# Altium footprint library IC-SMD.PCBLIB: 298 footprints (part 12 of 19)
Each footprint in its own frame and in the unit in brackets; x right, y up, seen from the top. Pads: shape width x height; smd on the part's side, far side on the other; paste and mask are expansions set on the pad; w line width, h text height; cw(c..) or ccw(c..) is an arc to the next point about the centre after c.
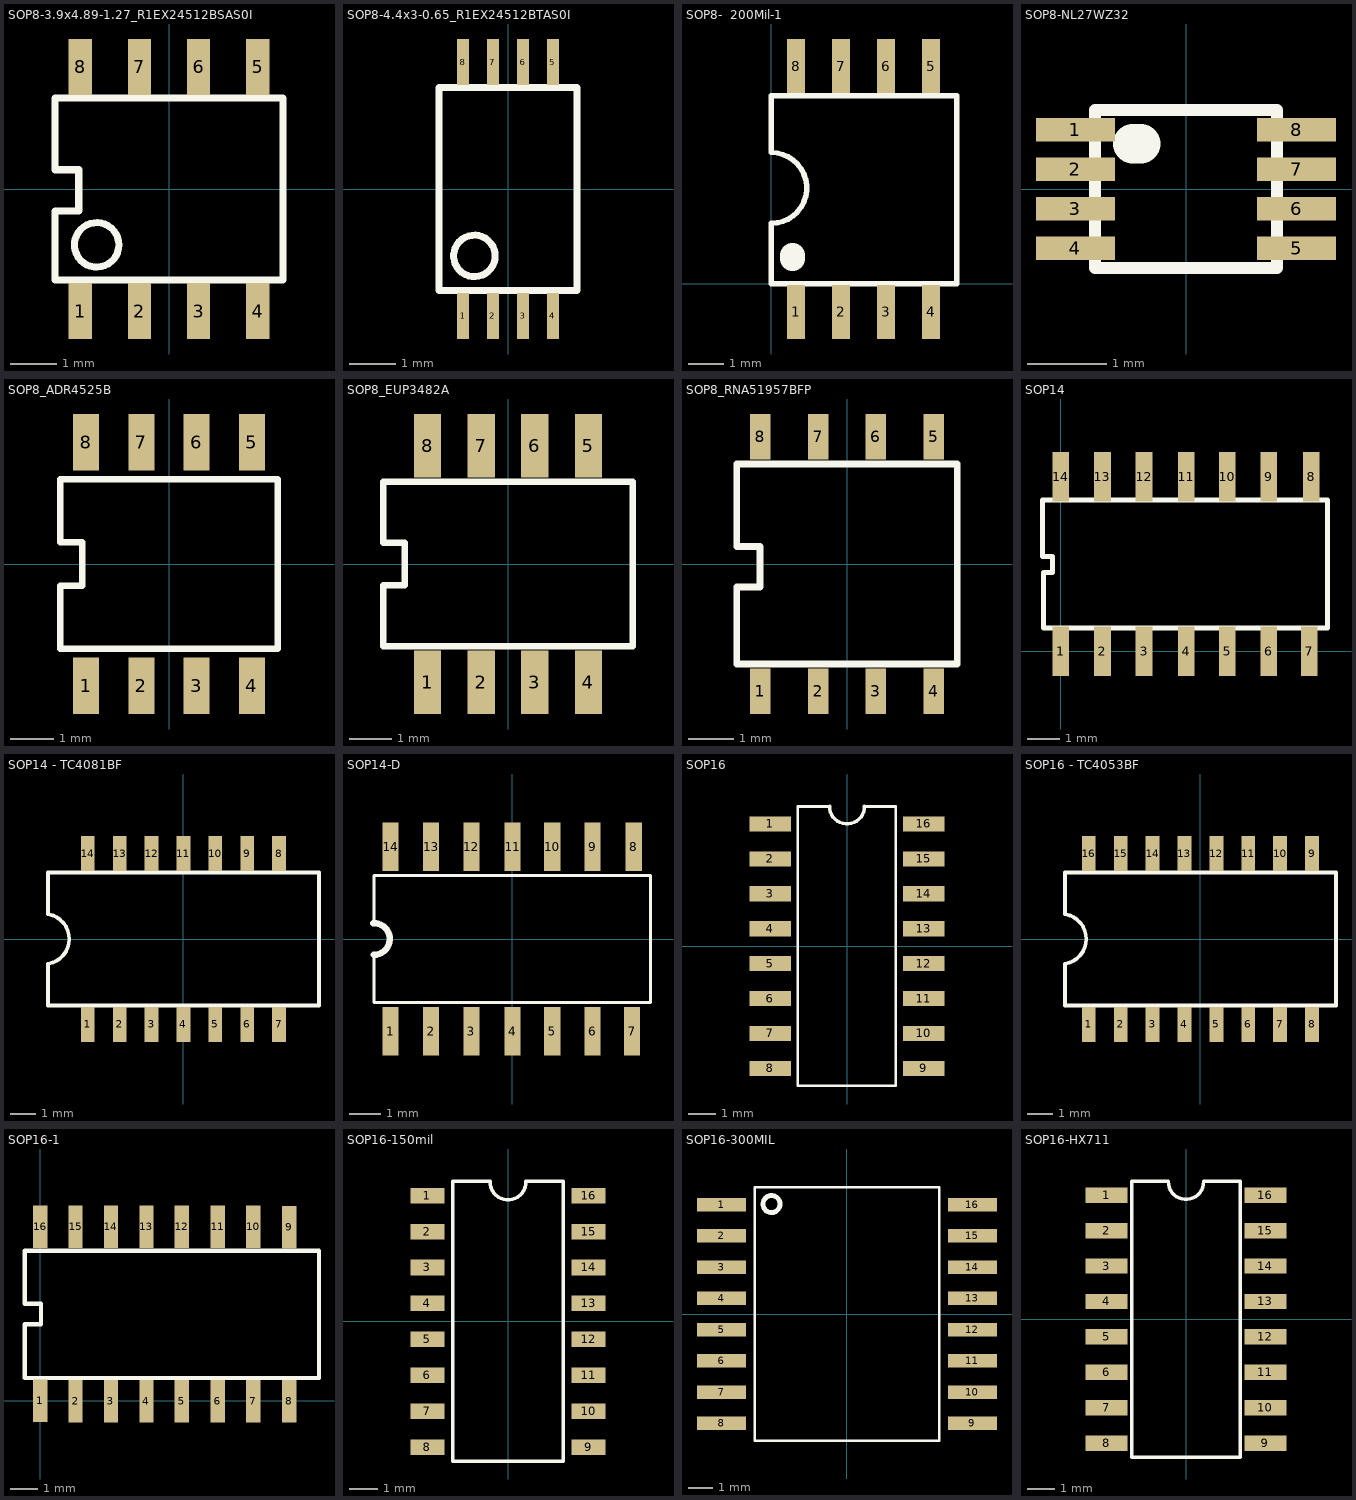
[diagram p11: the footprints below, top view; thin cyan lines are the x and y axes]

## SOP8-3.9x4.89-1.27_R1EX24512BSAS0I [mm] "SOP8-3.9x4.89-1.27_R1EX24512BSAS0I"
pads (8):
  rect 0.5x1.2 smd: 1(-1.905,-2.621) 2(-0.635,-2.621) 3(0.635,-2.621) 4(1.905,-2.621) 5(1.905,2.621) 6(0.635,2.621) 7(-0.635,2.621) 8(-1.905,2.621)
TopOverlay:
  circle w0.152: c-1.553,-1.2 r0.478
  lines w0.152: -2.445,-1.95 -2.445,-0.476 -1.937,-0.476 -1.937,0.413 -2.445,0.413 -2.445,1.95 2.445,1.95 2.445,-1.95 -2.445,-1.95

## SOP8-4.4x3-0.65_R1EX24512BTAS0I [mm] "SOP8-4.4x3-0.65_R1EX24512BTAS0I"
pads (8):
  rect 0.25x1 smd: 1(-0.975,-2.75) 2(-0.325,-2.75) 3(0.325,-2.75) 4(0.975,-2.75) 5(0.975,2.75) 6(0.325,2.75) 7(-0.325,2.75) 8(-0.975,2.75)
TopOverlay:
  circle w0.152: c-0.728,-1.45 r0.45
  lines w0.152: -1.5,-2.2 1.5,-2.2 1.5,2.2 -1.5,2.2 -1.5,-2.2

## SOP8-  200Mil-1 [mil] "SOP8-  200Mil-1"
pads (8):
  rect 20x60 smd: 1(27.56,-31.5) 2(77.56,-31.5) 3(127.56,-31.5) 4(177.56,-31.5) 5(177.56,241.81) 6(127.56,241.81) 7(77.56,241.81) 8(27.56,241.81)
TopOverlay:
  lines w6: 0,0 205.91,0 205.91,208.66 0,208.66 0,145.67 cw(c0,106.3) 0,66.93 0,0
  lines w27.56: 23.62,27.56 23.62,31.5

## SOP8-NL27WZ32 [mm] "SOP8-NL27WZ32"
pads (8):
  rect 1x0.3 smd: 1(-1.4,0.75) 2(-1.4,0.25) 3(-1.4,-0.25) 4(-1.4,-0.75) 5(1.4,-0.75) 6(1.4,-0.25) 7(1.4,0.25) 8(1.4,0.75)
TopOverlay:
  lines w0.152: -1.15,-1 1.15,-1 1.15,1 -1.15,1 -1.15,-1
  lines w0.5: -0.675,0.575 -0.575,0.575

## SOP8_ADR4525B [mm] "SOP8_ADR4525B"
pads (8):
  rect 0.6x1.3 smd: 1(-1.905,-2.8) 2(-0.635,-2.8) 3(0.635,-2.8) 4(1.905,-2.8) 5(1.905,2.8) 6(0.635,2.8) 7(-0.635,2.8) 8(-1.905,2.8)
TopOverlay:
  lines w0.152: -2.5,-1.95 -2.5,-0.5 -1.992,-0.5 -1.992,0.5 -2.5,0.5 -2.5,1.95 2.5,1.95 2.5,-1.95 -2.5,-1.95

## SOP8_EUP3482A [mm] "SOP8_EUP3482A"
pads (8):
  rect 0.65x1.5 smd: 1(-1.905,-2.8) 2(-0.635,-2.8) 3(0.635,-2.8) 4(1.905,-2.8) 5(1.905,2.8) 6(0.635,2.8) 7(-0.635,2.8) 8(-1.905,2.8)
TopOverlay:
  lines w0.152: -2.95,-1.95 -2.95,-0.5 -2.442,-0.5 -2.442,0.5 -2.95,0.5 -2.95,1.95 2.95,1.95 2.95,-1.95 -2.95,-1.95

## SOP8_RNA51957BFP [mm] "SOP8_RNA51957BFP"
pads (8):
  rect 0.45x1 smd: 1(-1.905,-2.8) 2(-0.635,-2.8) 3(0.635,-2.8) 4(1.905,-2.8) 5(1.905,2.8) 6(0.635,2.8) 7(-0.635,2.8) 8(-1.905,2.8)
TopOverlay:
  lines w0.152: -2.425,-2.2 2.425,-2.2 2.425,2.2 -2.425,2.2 -2.425,0.381 -1.917,0.381 -1.917,-0.508 -2.425,-0.508 -2.425,-2.2

## SOP14 [mil]
pads (14):
  rect 20x60 smd: 1(0,0) 2(50,0) 3(100,0) 4(151,0) 5(200,0) 6(250,0) 7(299,0) 8(301,210) 9(250,210) 10(200,210) 11(151,210) 12(100,210) 13(50,210) 14(0,210)
TopOverlay:
  lines w6: -22,114 -22,182 321,182 321,28 -21,28 -21,95 -10,95 -10,114 -22,114

## SOP14 - TC4081BF [mm] "SOP14 - TC4081BF"
pads (14):
  rect 0.55x1.4 smd: 1(-3.81,-3.4) 2(-2.54,-3.4) 3(-1.27,-3.4) 4(0,-3.4) 5(1.27,-3.4) 6(2.54,-3.4) 7(3.81,-3.4) 8(3.81,3.4) 9(2.54,3.4) 10(1.27,3.4) 11(0,3.4) 12(-1.27,3.4) 13(-2.54,3.4) 14(-3.81,3.4)
TopOverlay:
  lines w0.152: -5.4,-0.985 -5.4,-2.65 5.4,-2.65 5.4,2.65 -5.4,2.65 -5.4,0.984 ; -5.375,-0.985 ccw(c-5.55,0) -5.372,0.984

## SOP14-D [mil]
pads (14):
  rect 20x60 smd: 1(-150.5,-114.17) 2(-100.5,-114.17) 3(-50.5,-114.17) 4(0.5,-114.17) 5(49.5,-114.17) 6(99.5,-114.17) 7(148.5,-114.17) 8(150.5,114.17) 9(99.5,114.17) 10(49.5,114.17) 11(0.5,114.17) 12(-50.5,114.17) 13(-100.5,114.17) 14(-150.5,114.17)
TopOverlay:
  lines w3.94: -171.26,-19.68 -171.26,-78.74 171.26,-78.74 171.26,78.74 -171.26,78.74 -171.26,19.68
  lines w7.87: -172.2,19.66 cw(c-171.26,0) -171.26,-19.68

## SOP16 [mm]
pads (16):
  rect 1.5x0.55 smd: 1(-2.794,4.445) 2(-2.794,3.175) 3(-2.794,1.905) 4(-2.794,0.635) 5(-2.794,-0.635) 6(-2.794,-1.905) 7(-2.794,-3.175) 8(-2.794,-4.445) 9(2.794,-4.445) 10(2.794,-3.175) 11(2.794,-1.905) 12(2.794,-0.635) 13(2.794,0.635) 14(2.794,1.905) 15(2.794,3.175) 16(2.794,4.445)
TopOverlay:
  lines w0.1: -1.794,5.08 -1.794,-5.08 1.77,-5.08 1.77,5.08 0.635,5.08 ; -1.77,5.08 -0.635,5.08
  lines w0.127: -0.635,5.08 ccw(c0,5.08) 0.635,5.08

## SOP16 - TC4053BF [mm] "SOP16 - TC4053BF"
pads (16):
  rect 0.55x1.4 smd: 1(-4.445,-3.4) 2(-3.175,-3.4) 3(-1.905,-3.4) 4(-0.635,-3.4) 5(0.635,-3.4) 6(1.905,-3.4) 7(3.175,-3.4) 8(4.445,-3.4) 9(4.445,3.4) 10(3.175,3.4) 11(1.905,3.4) 12(0.635,3.4) 13(-0.635,3.4) 14(-1.905,3.4) 15(-3.175,3.4) 16(-4.445,3.4)
TopOverlay:
  lines w0.152: -5.4,-0.985 -5.4,-2.65 5.4,-2.65 5.4,2.65 -5.4,2.65 -5.4,0.984 ; -5.375,-0.985 ccw(c-5.55,0) -5.372,0.984

## SOP16-1 [mil]
pads (16):
  rect 20x60 smd: 1(0,0) 2(50,-1) 3(100,-1) 4(150,-1) 5(200,-1) 6(251,-1) 7(301,-1) 8(352,-1) 9(352,245) 10(301,246) 11(251,246) 12(200,246) 13(150,246) 14(100,246) 15(50,246) 16(0,246)
TopOverlay:
  lines w6: -22,32 -22,108 1,108 1,137 -22,137 -22,212 394,212 394,32 -22,32

## SOP16-150mil [mm] "SOP16-150mil"
pads (16):
  rect 1.2x0.55 smd: 1(-2.85,4.445) 2(-2.85,3.175) 3(-2.85,1.905) 4(-2.85,0.635) 5(-2.85,-0.635) 6(-2.85,-1.905) 7(-2.85,-3.175) 8(-2.85,-4.445) 9(2.85,-4.445) 10(2.85,-3.175) 11(2.85,-1.905) 12(2.85,-0.635) 13(2.85,0.635) 14(2.85,1.905) 15(2.85,3.175) 16(2.85,4.445)
TopOverlay:
  lines w0.127: -0.635,4.93 ccw(c0,4.93) 0.635,4.93 ; -0.635,4.95 -1.95,4.95 -1.95,-4.95 1.95,-4.95 1.95,4.95 0.635,4.95

## SOP16-300MIL [mm]
pads (16):
  rect 2x0.55 smd: 1(-5.105,4.445) 2(-5.105,3.175) 3(-5.105,1.905) 4(-5.105,0.635) 5(-5.105,-0.635) 6(-5.105,-1.905) 7(-5.105,-3.175) 8(-5.105,-4.445) 9(5.105,-4.445) 10(5.105,-3.175) 11(5.105,-1.905) 12(5.105,-0.635) 13(5.105,0.635) 14(5.105,1.905) 15(5.105,3.175) 16(5.105,4.445)
TopOverlay:
  circle w0.2: c-3.072,4.475 r0.347
  lines w0.1: -3.75,-5.15 -3.75,5.15 3.75,5.15 3.75,-5.15 -3.75,-5.15

## SOP16-HX711 [mm] "SOP16-HX711"
pads (16):
  rect 1.5x0.55 smd: 1(-2.85,4.445) 2(-2.85,3.175) 3(-2.85,1.905) 4(-2.85,0.635) 5(-2.85,-0.635) 6(-2.85,-1.905) 7(-2.85,-3.175) 8(-2.85,-4.445) 9(2.85,-4.445) 10(2.85,-3.175) 11(2.85,-1.905) 12(2.85,-0.635) 13(2.85,0.635) 14(2.85,1.905) 15(2.85,3.175) 16(2.85,4.445)
TopOverlay:
  lines w0.127: -0.635,4.93 ccw(c0,4.93) 0.635,4.93 ; -0.635,4.95 -1.95,4.95 -1.95,-4.95 1.95,-4.95 1.95,4.95 0.635,4.95